# EAGLE library part FSUSB42MUX (library FSUSB42MUX)
15A Maximum ICCT over and Expanded Control Voltage Range (VIN= 1.8V, VCC= 4.3V) ; Packaged in: ; Low On Resistance: 3.9 Typical ; 8kV ESD Rating, >16kV Power/GND ESD Rating ; 10-Lead MSOP ; Low Power Consumption: 1A Maximum ; Wide -3dB Bandwitch: > 720MHz ; Low On Capacitance: 3.7pF Typical ; Over-Voltage Tolerance (OVT) on all USB Ports Up to 5.25V without External Components; 10-Lead UMLP (1.4 x 1.8mm) Source: Datasheet <https://www.onsemi.com/pub/Collateral/FSUSB42-D.PDF>
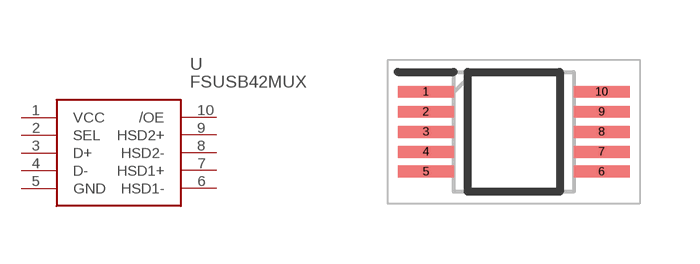
[diagram p0: symbol with the pads of SOP50P490X110-10N; footprint SOP50P490X110-10N]

Designator prefix U

## FSUSB42MUX (Arrow_Part_Number: FSUSB42MUX; Arrow_Price-Stock: https://www.arrow.com/en/products/fsusb42mux/on-semiconductor?utm_currency=USD&region=nac; Description: 15A Maximum ICCT over and Expanded Control Voltage Range (VIN= 1.8V, VCC= 4.3V) ; Packaged in: ; Low On Resistance: 3.9 Typical ; 8kV ESD Rating, >16kV Power/GND ESD Rating ; 10-Lead MSOP ; Low Power Consumption: 1A Maximum ; Wide -3dB Bandwitch: > 720MHz ; Low On Capacitance: 3.7pF Typical ; Over-Voltage Tolerance (OVT) on all USB Ports Up to 5.25V without External Components; 10-Lead UMLP (1.4 x 1.8mm); Height: 1.1mm; Manufacturer_Name: onsemi; Manufacturer_Part_Number: FSUSB42MUX; Mouser_Part_Number: 512-FSUSB42MUX; Mouser_Price-Stock: https://www.mouser.co.uk/ProductDetail/onsemi-Fairchild/FSUSB42MUX?qs=yA6kp8fx8Y59RAD4iJDRWg%3D%3D)  [SOP50P490X110-10N]
1  VCC
2  SEL
3  D+
4  D-
5  GND
6  HSD1-
7  HSD1+  pwr
8  HSD2-
9  HSD2+
10  /OE

## Footprint SOP50P490X110-10N (pad centres in mm)
MSOP10 3X3 CASE 846AE_1
smd 1.4 x 0.3: 1 -2.2,1; 2 -2.2,0.5; 3 -2.2,0; 4 -2.2,-0.5; 5 -2.2,-1; 6 2.2,-1; 7 2.2,-0.5; 8 2.2,0; 9 2.2,0.5; 10 2.2,1